# EAGLE library part MY_PARTS_STM32F303RCT6 (library main)
ARM Cortex-M4 32b MCU+FPU,LQFP-64
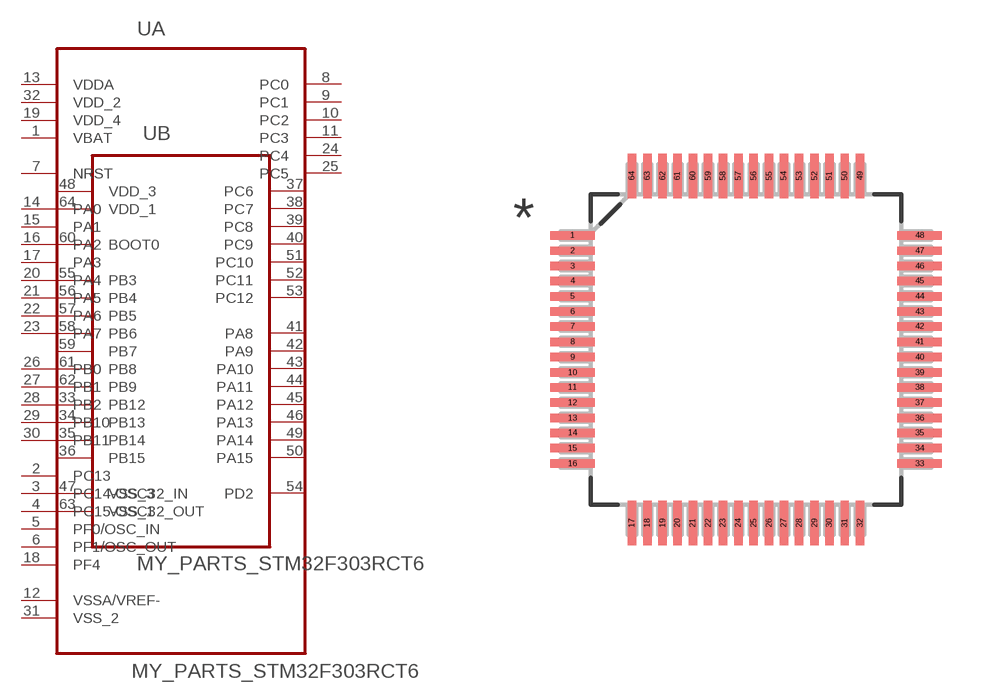
[diagram p2: symbol with the pads of MY_PARTS_QFP50P1200X1200X160-64N; footprint MY_PARTS_QFP50P1200X1200X160-64N]

Designator prefix U; gates A=MY_PARTS_STM32F303RCT6_A B=MY_PARTS_STM32F303RCT6_B

## MY_PARTS_STM32F303RCT6 (MPN: STM32F303RCT6; OC_FARNELL: 2215112; OC_NEWARK: 46W2193; PACKAGE: LQFP-64; SUPPLIER: STMICROELECTRONICS)  [MY_PARTS_QFP50P1200X1200X160-64N]
1  A:VBAT  pwr
2  A:PC13
3  A:PC14-OSC32_IN
4  A:PC15-OSC32_OUT
5  A:PF0/OSC_IN
6  A:PF1/OSC_OUT
7  A:NRST
8  A:PC0
9  A:PC1
10  A:PC2
11  A:PC3
12  A:VSSA/VREF-  pwr
13  A:VDDA  pwr
14  A:PA0
15  A:PA1
16  A:PA2
17  A:PA3
18  A:PF4
19  A:VDD_4  pwr
20  A:PA4
21  A:PA5
22  A:PA6
23  A:PA7
24  A:PC4
25  A:PC5
26  A:PB0
27  A:PB1
28  A:PB2
29  A:PB10
30  A:PB11
31  A:VSS_2  pas
32  A:VDD_2  pwr
33  B:PB12
34  B:PB13
35  B:PB14
36  B:PB15
37  B:PC6
38  B:PC7
39  B:PC8
40  B:PC9
41  B:PA8
42  B:PA9
43  B:PA10
44  B:PA11
45  B:PA12
46  B:PA13
47  B:VSS_3  pas
48  B:VDD_3  pwr
49  B:PA14
50  B:PA15
51  B:PC10
52  B:PC11
53  B:PC12
54  B:PD2
55  B:PB3
56  B:PB4
57  B:PB5
58  B:PB6
59  B:PB7
60  B:BOOT0  in
61  B:PB8
62  B:PB9
63  B:VSS_1  pas
64  B:VDD_1  pwr

## Footprint MY_PARTS_QFP50P1200X1200X160-64N (pad centres in mm)
smd 1.473 x 0.279: 1 -5.715,3.759; 2 -5.715,3.251; 3 -5.715,2.743; 4 -5.715,2.261; 5 -5.715,1.753; 6 -5.715,1.245; 7 -5.715,0.762; 8 -5.715,0.254; 9 -5.715,-0.254; 10 -5.715,-0.762; 11 -5.715,-1.245; 12 -5.715,-1.753; 13 -5.715,-2.261; 14 -5.715,-2.743; 15 -5.715,-3.251; 16 -5.715,-3.759; 33 5.715,-3.759; 34 5.715,-3.251; 35 5.715,-2.743; 36 5.715,-2.261; 37 5.715,-1.753; 38 5.715,-1.245; 39 5.715,-0.762; 40 5.715,-0.254; 41 5.715,0.254; 42 5.715,0.762; 43 5.715,1.245; 44 5.715,1.753; 45 5.715,2.261; 46 5.715,2.743; 47 5.715,3.251; 48 5.715,3.759
smd 0.279 x 1.473: 17 -3.759,-5.715; 18 -3.251,-5.715; 19 -2.743,-5.715; 20 -2.261,-5.715; 21 -1.753,-5.715; 22 -1.245,-5.715; 23 -0.762,-5.715; 24 -0.254,-5.715; 25 0.254,-5.715; 26 0.762,-5.715; 27 1.245,-5.715; 28 1.753,-5.715; 29 2.261,-5.715; 30 2.743,-5.715; 31 3.251,-5.715; 32 3.759,-5.715; 49 3.759,5.715; 50 3.251,5.715; 51 2.743,5.715; 52 2.261,5.715; 53 1.753,5.715; 54 1.245,5.715; 55 0.762,5.715; 56 0.254,5.715; 57 -0.254,5.715; 58 -0.762,5.715; 59 -1.245,5.715; 60 -1.753,5.715; 61 -2.261,5.715; 62 -2.743,5.715; 63 -3.251,5.715; 64 -3.759,5.715